# Altium schematic symbol library 750310742.SCHLIB: 1 symbol
Pins are listed as number, name and electrical type; pins without a type are passive.

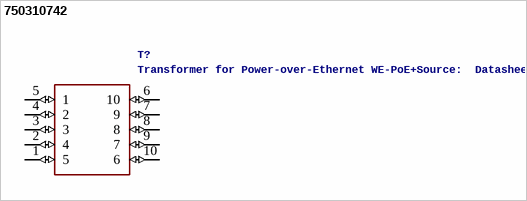
[diagram p0: symbol 750310742]

## 750310742
designator T?, comment Transformer for Power-over-Ethernet WE-PoE+Source:  Datasheet
Manufacturer_Name: Wurth Elektronik; GateName_1: G$1; SymbolName_1: 750310742; LibraryName: 750310742; DeviceSetName: 750310742; Package: WE_EP13_SMD_10PIN64; Manufacturer_Part_Number: 750310742; Mouser_Part_Number: 710-750310742; Mouser_Price-Stock: https://www.mouser.co.uk/ProductDetail/Wurth-Elektronik/750310742?qs=2sV1BwmkawTx1XpQEE2odg%3D%3D; Description: Transformer for Power-over-Ethernet WE-PoE+; Height: mm
footprint WE_EP13_SMD_10PIN64
pins: 1 5 (io), 2 4 (io), 3 (io), 4 2 (io), 5 1 (io), 6 10 (io), 7 9 (io), 8 (io), 9 7 (io), 10 6 (io)